# EAGLE library part INFINEON_BGM1034N7 (library Ava)
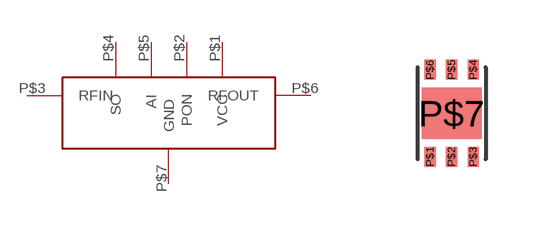
[diagram p43: symbol with the pads of TSNP-7-10; footprint TSNP-7-10]

Designator prefix -

## INFINEON_BGM1034N7  [TSNP-7-10]
P$1  VCC
P$2  PON
P$3  RFIN
P$4  SO
P$5  AI
P$6  RFOUT
P$7  GND

## Footprint TSNP-7-10 (pad centres in mm)
smd 0.28 x 0.5: P$1 -0.54,-1.09; P$2 0,-1.09; P$3 0.54,-1.09; P$4 0.54,1.09; P$5 0,1.09; P$6 -0.54,1.09
smd 1.5 x 1.28: P$7 0,0